# Altium schematic symbol library ADuM1251.SchLib: 1 symbol
Pins are listed as number, name and electrical type; pins without a type are passive.

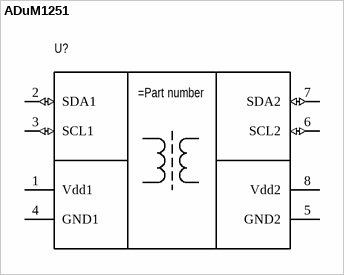
[diagram p0: symbol ADuM1251]

## ADuM1251
designator U?
Dual hotswap I2C isolator
pins: 1 Vdd1 (power), 2 SDA1 (io), 3 SCL1 (io), 4 GND1 (power), 5 GND2 (power), 6 SCL2 (io), 7 SDA2 (io), 8 Vdd2 (power)